# EAGLE library part SIM68R (library sim68)
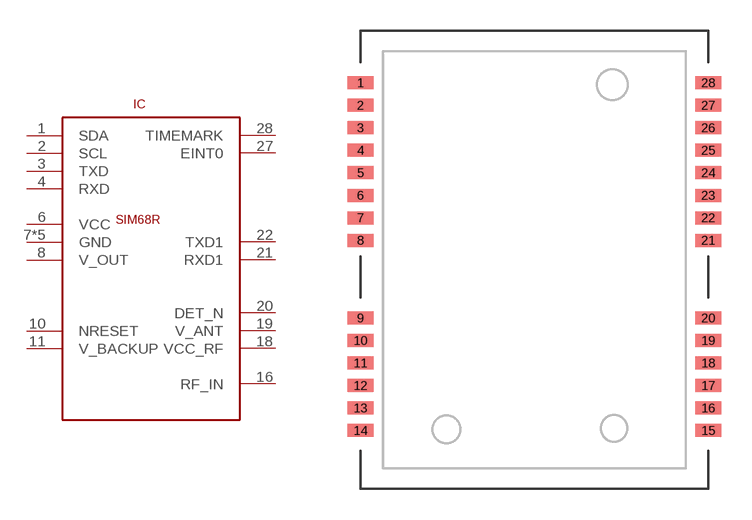
[diagram p0: symbol with the pads of SIM68; footprint SIM68]

Designator prefix IC

## SIM68R  [SIM68]
1  SDA
2  SCL
3  TXD
4  RXD
6  VCC
7  GND
8  V_OUT
10  NRESET
11  V_BACKUP
13  GND
14  GND
15  GND
16  RF_IN
17  GND
18  VCC_RF
19  V_ANT
20  DET_N
21  RXD1
22  TXD1
27  EINT0
28  TIMEMARK

## Footprint SIM68 (pad centres in mm)
smd 1.27 x 0.635: 1 0,0; 2 0,-1.1; 3 0,-2.2; 4 0,-3.3; 5 0,-4.4; 6 0,-5.5; 7 0,-6.6; 8 0,-7.7; 9 0,-11.5; 10 0,-12.6; 11 0,-13.7; 12 0,-14.8; 13 0,-15.9; 14 0,-17; 15 17,-17; 16 17,-15.9; 17 17,-14.8; 18 17,-13.7; 19 17,-12.6; 20 17,-11.5; 21 17,-7.7; 22 17,-6.6; 23 17,-5.5; 24 17,-4.4; 25 17,-3.3; 26 17,-2.2; 27 17,-1.1; 28 17,0